# Altium footprint library Connectivity_Plugs.PcbLib: 37 footprints (part 3 of 3)
Each footprint in its own frame and in the unit in brackets; x right, y up, seen from the top. Pads: shape width x height; smd on the part's side, far side on the other; paste and mask are expansions set on the pad; w line width, h text height; cw(c..) or ccw(c..) is an arc to the next point about the centre after c.
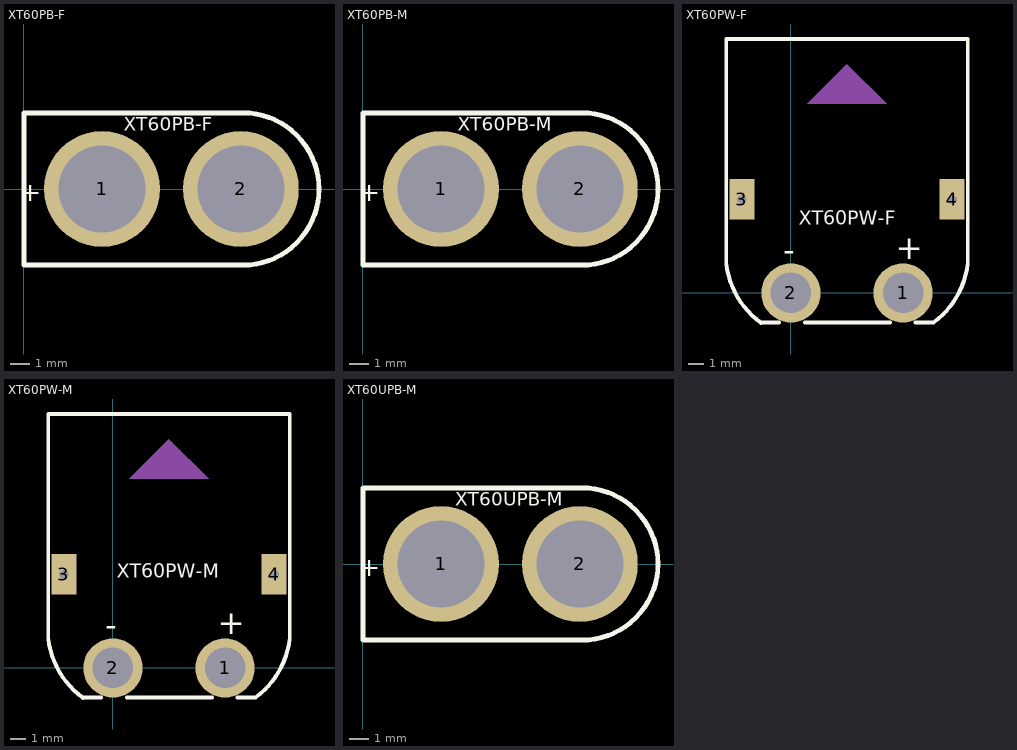
[diagram p2: the footprints below, top view; thin cyan lines are the x and y axes]

## XT60PB-F [mm]
pads (2):
  round 6 hole 4.5: 1(4.05,0) 2(11.25,0)
Top Overlay:
  lines w0.254: 0,-3.95 11.35,-3.95 ccw(c11.35,0) 11.35,3.95 0,3.95 0,-3.95
  text "+" at -0.254,-0.635 h1
  text "XT60PB-F" at 5.18,3.021 h0.7

## XT60PB-M [mm]
pads (2):
  round 6 hole 4.5: 1(4.05,0) 2(11.25,0)
Top Overlay:
  lines w0.254: 0,-3.95 0,3.95 11.35,3.95 cw(c11.35,0) 11.35,-3.95 0,-3.95
  text "XT60PB-M" at 4.926,3.021 h0.7
  text "+" at -0.254,-0.635 h1
3D body "User Library-XT60PB_F.STEP": height 16.1, standoff -2, extent -0.253,-4.064 15.747,4.036

## XT60PW-F [mm]
height 8.4
pads (4):
  round 3.8 hole 2.6: 1(7.2,0) 2(0,0)
  rect 1.6x2.6 hole 0.6 square: 3(-3.15,6) 4(10.35,6)
Top Overlay:
  lines w0.254: -1.916,-1.92 cw(c1.288,2.517) -4.15,1.9 -4.15,16.3 11.35,16.3 ; -1.905,-1.905 -0.762,-1.905 ; 0.889,-1.905 5.295,-1.905 6.35,-1.905 ; 8.001,-1.905 9.137,-1.905 9.144,-1.905 ; 9.141,-1.902 ccw(c5.912,2.517) 11.35,1.9 11.35,16.256
  text "XT60PW-F" at 0.508,4.064 h1.52
  text "-" at -0.508,2.032 h1.52
  text "+" at 6.731,2.159 h1.52
Mechanical 15:
  region: 6.14,12.144 1.06,12.144 3.6,14.684

## XT60PW-M [mm]
height 8.4
pads (4):
  round 3.8 hole 2.6: 1(7.2,0) 2(0,0)
  rect 1.6x2.6 hole 0.6 square: 3(-3.15,6) 4(10.35,6)
Top Overlay:
  lines w0.254: -1.916,-1.92 cw(c1.288,2.517) -4.15,1.9 -4.15,16.3 11.35,16.3 ; -1.905,-1.905 -0.762,-1.905 ; 0.889,-1.905 5.295,-1.905 6.35,-1.905 ; 8.001,-1.905 9.137,-1.905 9.144,-1.905 ; 9.141,-1.902 ccw(c5.912,2.517) 11.35,1.9 11.35,16.256
  text "-" at -0.508,2.032 h1.52
  text "+" at 6.731,2.159 h1.52
  text "XT60PW-M" at 0.254,5.461 h1.52
Mechanical 15:
  region: 6.14,12.144 1.06,12.144 3.6,14.684
3D body "3D_PCB1_2023-02-22.step": height 9.7, standoff -1.4, extent -4.197,-1.938 11.303,16.162

## XT60UPB-M [mm]
pads (2):
  round 6 hole 4.5: 1(4.05,0) 2(11.25,0)
Top Overlay:
  lines w0.254: 0,-3.95 11.35,-3.95 ccw(c11.35,0) 11.35,3.95 0,3.95 0,-3.95
  text "+" at -0.254,-0.635 h1
  text "XT60UPB-M" at 4.799,3.021 h0.7
3D body "User Library-XT60UPB Fem Vert.STEP": height 13.54, standoff -2.06, extent -0.102,-3.963 15.24,3.937